# Altium footprint library PcbLib1.PcbLib: 2 footprints
Each footprint in its own frame and in the unit in brackets; x right, y up, seen from the top. Pads: shape width x height; smd on the part's side, far side on the other; paste and mask are expansions set on the pad; w line width, h text height; cw(c..) or ccw(c..) is an arc to the next point about the centre after c.
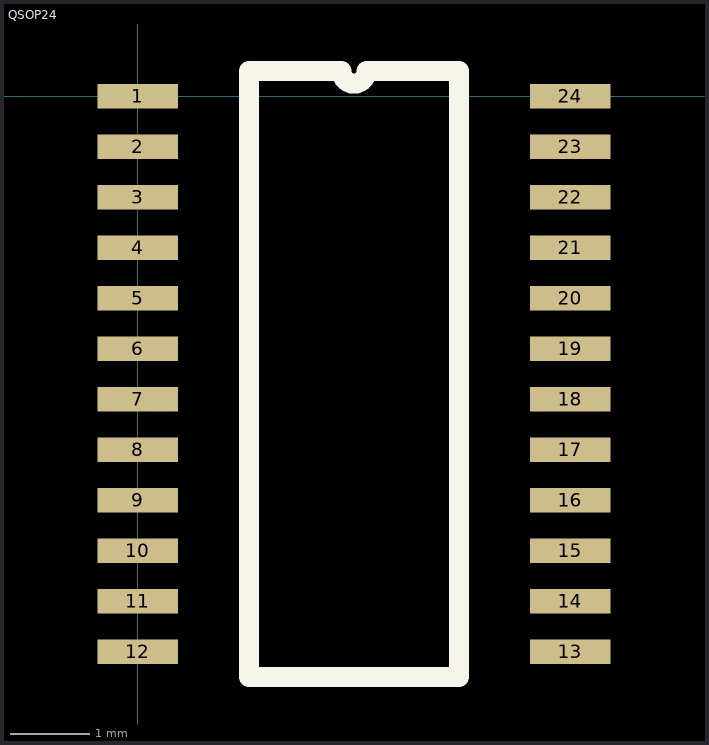
[diagram p0: the footprints below, top view; thin cyan lines are the x and y axes]

## PCBComponent_1 [mil]

## QSOP24 [mil]
pads (24):
  rect 40x12 smd: 1(0,0) 2(0,-25) 3(0,-50) 4(0,-75) 5(0,-100) 6(0,-125) 7(0,-150) 8(0,-175) 9(0,-200) 10(0,-225) 11(0,-250) 12(0,-275) 13(214,-275) 14(214,-250) 15(214,-225) 16(214,-200) 17(214,-175) 18(214,-150) 19(214,-125) 20(214,-100) 21(214,-75) 22(214,-50) 23(214,-25) 24(214,0)
Top Overlay:
  lines w10: 55,-287.5 159,-287.5 159,12.5 113.25,12.5 cw(c107,12.5) 100.75,12.5 55,12.5 55,-287.5